# Altium schematic symbol library IC_ON_Semi_MAX809TTRG.SchLib: 1 symbol
Pins are listed as number, name and electrical type; pins without a type are passive.

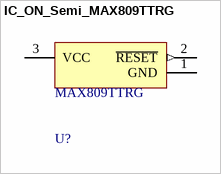
[diagram p0: symbol IC_ON_Semi_MAX809TTRG]

## IC_ON_Semi_MAX809TTRG
designator U?  Part Number: MAX809TTRG
IC MPU SUPERVISORY 3.08V SOT23; Manufacturer: ON Semi; helpURL: https://www.digikey.no/product-detail/en/on-semiconductor/MAX809TTRG/MAX809TTRGOSCT-ND/917961; ComponentLink2Description: Datasheet; Temperature: -40°C to +105°C; Package: CASE 318−08; ComponentLink2URL: http://www.onsemi.com/pub/Collateral/MAX809S-D.PDF; RoHS: TRUE; Temperature Range High: +105°C; Digikey Description: IC MPU SUPERVISORY 3.08V SOT23; Lead Free: yes; Temperature Range Low: -40°C
footprint ON_Semi_CASE_318-08_0
pins: 1 GND (power), 2 ~{RESET} (out), 3 VCC (power)